# EAGLE library part PC1725041 (library digikey)
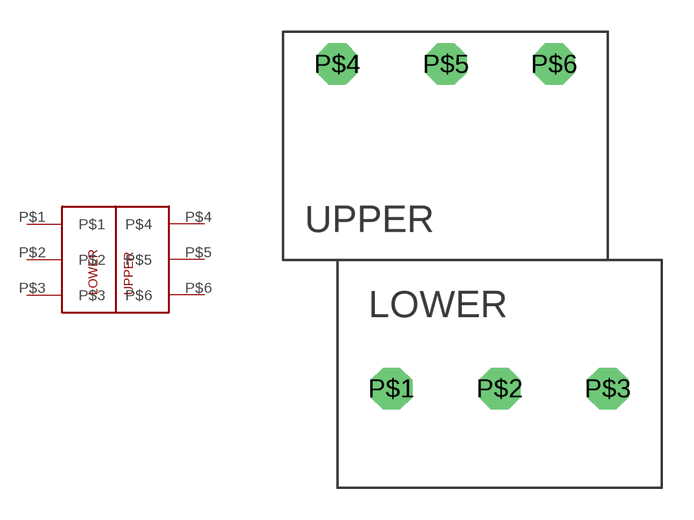
[diagram p2: symbol with the pads of PC-MKKDS1.5/3-5.08; footprint PC-MKKDS1.5/3-5.08]

Designator prefix -

## PC1725041  [PC-MKKDS1.5/3-5.08]
P$1  P$1
P$2  P$2
P$3  P$3
P$4  P$4
P$5  P$5
P$6  P$6

## Footprint PC-MKKDS1.5/3-5.08 (pad centres in mm)
drill 1.3 octagon: P$1 5.08,4.65; P$2 10.16,4.65; P$3 15.24,4.65; P$4 2.54,19.89; P$5 7.64,19.89; P$6 12.72,19.89